# EAGLE library part MC9S08AC60-64* (library freescale-hcs08)
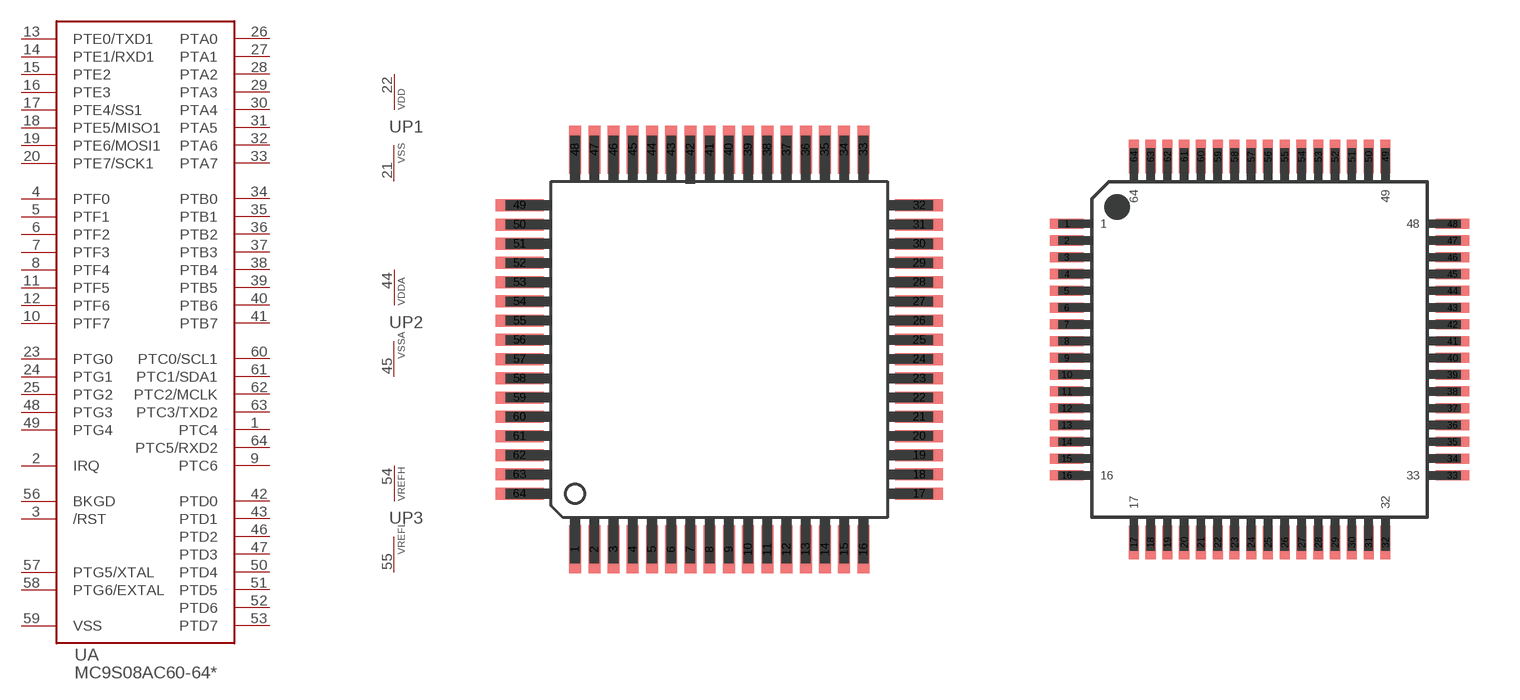
[diagram p8: symbol with the pads of QFP64; footprints QFP64, LQFP64]

Designator prefix -; gates P1=VDD-VSS P2=VDDA-VSSA P3=VREFH-VREFL A=MC9S08AC60-64

## MC9S08AC60-64FUE  [QFP64]
1  A:PTC4
2  A:IRQ
3  A:/RST
4  A:PTF0
5  A:PTF1
6  A:PTF2
7  A:PTF3
8  A:PTF4
9  A:PTC6
10  A:PTF7
11  A:PTF5
12  A:PTF6
13  A:PTE0/TXD1
14  A:PTE1/RXD1
15  A:PTE2
16  A:PTE3
17  A:PTE4/SS1
18  A:PTE5/MISO1
19  A:PTE6/MOSI1
20  A:PTE7/SCK1
21  P1:VSS  pwr
22  P1:VDD  pwr
23  A:PTG0
24  A:PTG1
25  A:PTG2
26  A:PTA0
27  A:PTA1
28  A:PTA2
29  A:PTA3
30  A:PTA4
31  A:PTA5
32  A:PTA6
33  A:PTA7
34  A:PTB0
35  A:PTB1
36  A:PTB2
37  A:PTB3
38  A:PTB4
39  A:PTB5
40  A:PTB6
41  A:PTB7
42  A:PTD0
43  A:PTD1
44  P2:VDDA  pwr
45  P2:VSSA  pwr
46  A:PTD2
47  A:PTD3
48  A:PTG3
49  A:PTG4
50  A:PTD4
51  A:PTD5
52  A:PTD6
53  A:PTD7
54  P3:VREFH  pwr
55  P3:VREFL  pwr
56  A:BKGD
57  A:PTG5/XTAL
58  A:PTG6/EXTAL
59  A:VSS
60  A:PTC0/SCL1
61  A:PTC1/SDA1
62  A:PTC2/MCLK
63  A:PTC3/TXD2
64  A:PTC5/RXD2

## MC9S08AC60-64FGE  [LQFP64]
Pads as for QFP64

## Footprint QFP64 (pad centres in mm)
smd 0.5 x 2: 1 -6,-8.318; 2 -5.2,-8.318; 3 -4.4,-8.318; 4 -3.6,-8.318; 5 -2.8,-8.318; 6 -2,-8.318; 7 -1.2,-8.318; 8 -0.4,-8.318; 9 0.4,-8.318; 10 1.2,-8.318; 11 2,-8.318; 12 2.8,-8.318; 13 3.6,-8.318; 14 4.4,-8.318; 15 5.2,-8.318; 16 6,-8.318; 33 6,8.318; 34 5.2,8.318; 35 4.4,8.318; 36 3.6,8.318; 37 2.8,8.318; 38 2,8.318; 39 1.2,8.318; 40 0.4,8.318; 41 -0.4,8.318; 42 -1.2,8.318; 43 -2,8.318; 44 -2.8,8.318; 45 -3.6,8.318; 46 -4.4,8.318; 47 -5.2,8.318; 48 -6,8.318
smd 2 x 0.5: 17 8.318,-6; 18 8.318,-5.2; 19 8.318,-4.4; 20 8.318,-3.6; 21 8.318,-2.8; 22 8.318,-2; 23 8.318,-1.2; 24 8.318,-0.4; 25 8.318,0.4; 26 8.318,1.2; 27 8.318,2; 28 8.318,2.8; 29 8.318,3.6; 30 8.318,4.4; 31 8.318,5.2; 32 8.318,6; 49 -8.318,6; 50 -8.318,5.2; 51 -8.318,4.4; 52 -8.318,3.6; 53 -8.318,2.8; 54 -8.318,2; 55 -8.318,1.2; 56 -8.318,0.4; 57 -8.318,-0.4; 58 -8.318,-1.2; 59 -8.318,-2; 60 -8.318,-2.8; 61 -8.318,-3.6; 62 -8.318,-4.4; 63 -8.318,-5.2; 64 -8.318,-6

## Footprint LQFP64 (pad centres in mm)
smd 1 x 0.3: 1 -5.75,3.75; 2 -5.75,3.25; 3 -5.75,2.75; 4 -5.75,2.25; 5 -5.75,1.75; 6 -5.75,1.25; 7 -5.75,0.75; 8 -5.75,0.25; 9 -5.75,-0.25; 10 -5.75,-0.75; 11 -5.75,-1.25; 12 -5.75,-1.75; 13 -5.75,-2.25; 14 -5.75,-2.75; 15 -5.75,-3.25; 16 -5.75,-3.75; 33 5.75,-3.75; 34 5.75,-3.25; 35 5.75,-2.75; 36 5.75,-2.25; 37 5.75,-1.75; 38 5.75,-1.25; 39 5.75,-0.75; 40 5.75,-0.25; 41 5.75,0.25; 42 5.75,0.75; 43 5.75,1.25; 44 5.75,1.75; 45 5.75,2.25; 46 5.75,2.75; 47 5.75,3.25; 48 5.75,3.75
smd 0.3 x 1: 17 -3.75,-5.75; 18 -3.25,-5.75; 19 -2.75,-5.75; 20 -2.25,-5.75; 21 -1.75,-5.75; 22 -1.25,-5.75; 23 -0.75,-5.75; 24 -0.25,-5.75; 25 0.25,-5.75; 26 0.75,-5.75; 27 1.25,-5.75; 28 1.75,-5.75; 29 2.25,-5.75; 30 2.75,-5.75; 31 3.25,-5.75; 32 3.75,-5.75; 49 3.75,5.75; 50 3.25,5.75; 51 2.75,5.75; 52 2.25,5.75; 53 1.75,5.75; 54 1.25,5.75; 55 0.75,5.75; 56 0.25,5.75; 57 -0.25,5.75; 58 -0.75,5.75; 59 -1.25,5.75; 60 -1.75,5.75; 61 -2.25,5.75; 62 -2.75,5.75; 63 -3.25,5.75; 64 -3.75,5.75